# EAGLE library part LM2595S-5.0_NOPB (library LM2595S-5.0_NOPB)
SIMPLE SWITCHER Power Converter 150 KHz 1A Step-Down Voltage Regulator Source: Datasheet <http://www.ti.com/lit/ds/symlink/lm2595.pdf>
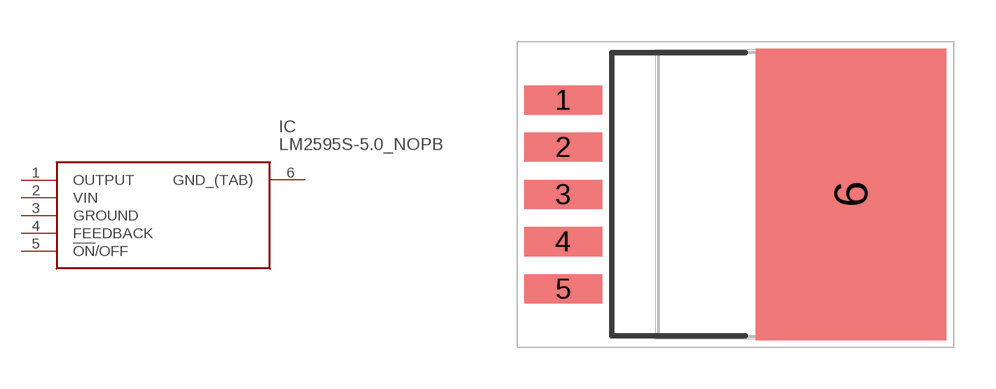
[diagram p0: symbol with the pads of TO170P1435X465-6N; footprint TO170P1435X465-6N]

Designator prefix IC

## LM2595S-5.0_NOPB (Arrow_Part_Number: LM2595S-5.0/NOPB; Arrow_Price-Stock: https://www.arrow.com/en/products/lm2595s-5.0nopb/texas-instruments?region=nac; Description: SIMPLE SWITCHER Power Converter 150 KHz 1A Step-Down Voltage Regulator; Height: 4.65mm; Manufacturer_Name: Texas Instruments; Manufacturer_Part_Number: LM2595S-5.0/NOPB; Mouser_Part_Number: 926-LM2595S-5.0/NOPB; Mouser_Price-Stock: https://www.mouser.co.uk/ProductDetail/Texas-Instruments/LM2595S-5.0-NOPB?qs=X1J7HmVL2ZFz8M1B7RKk%252BA%3D%3D)  [TO170P1435X465-6N]
1  OUTPUT  out
2  VIN  in
3  GROUND
4  FEEDBACK
5  !ON!/OFF
6  GND_(TAB)  pwr

## Footprint TO170P1435X465-6N (pad centres in mm)
KTT0005B
smd 2.8 x 1.05: 1 -6.2,3.4; 2 -6.2,1.7; 3 -6.2,0; 4 -6.2,-1.7; 5 -6.2,-3.4
smd 6.85 x 10.5: 6 4.15,0